# Altium footprint library BU04_Footprint.PcbLib: 1 footprints
Each footprint in its own frame and in the unit in brackets; x right, y up, seen from the top. Pads: shape width x height; smd on the part's side, far side on the other; paste and mask are expansions set on the pad; w line width, h text height; cw(c..) or ccw(c..) is an arc to the next point about the centre after c.
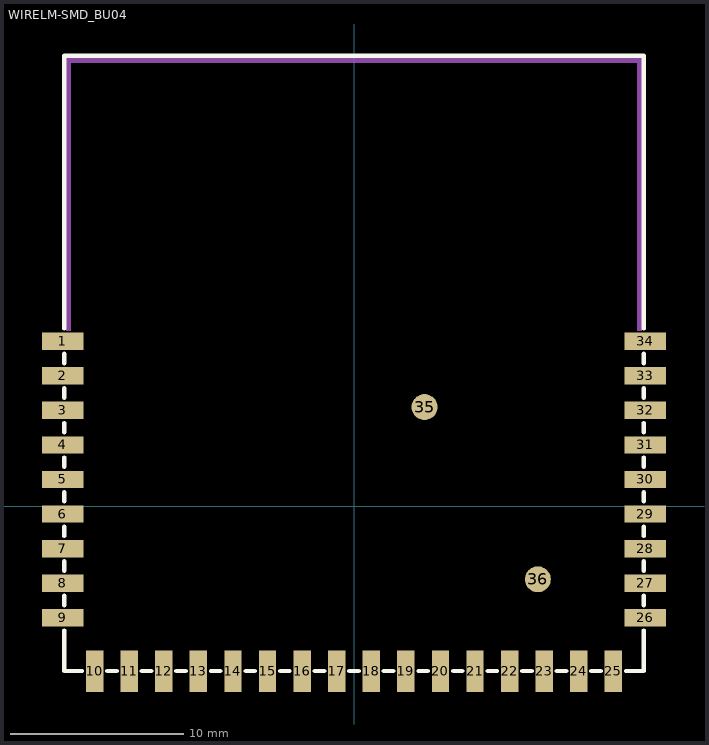
[diagram p0: the footprint, top view; thin cyan lines are the x and y axes]

## WIRELM-SMD_BU04 [mm]
pads (36):
  rect 2.4x1 smd paste+0 mask+0.051: 1(-16.85,9.55) 2(-16.85,7.55) 3(-16.85,5.55) 4(-16.85,3.55) 5(-16.85,1.55) 6(-16.85,-0.45) 7(-16.85,-2.45) 8(-16.85,-4.45) 9(-16.85,-6.45) 26(16.85,-6.45) 27(16.85,-4.45) 28(16.85,-2.45) 29(16.85,-0.45) 30(16.85,1.55) 31(16.85,3.55) 32(16.85,5.55) 33(16.85,7.55) 34(16.85,9.55)
  rect 1x2.4 smd paste+0 mask+0.051: 10(-15,-9.55) 11(-13,-9.55) 12(-11,-9.55) 13(-9,-9.55) 14(-7,-9.55) 15(-5,-9.55) 16(-3,-9.55) 17(-1,-9.55) 18(1,-9.55) 19(3,-9.55) 20(5,-9.55) 21(7,-9.55) 22(9,-9.55) 23(11,-9.55) 24(13,-9.55) 25(15,-9.55)
  round 1.5 smd paste+0 mask+0.051: 35(4.08,5.74) 36(10.63,-4.22)
Top Overlay:
  lines w0.254: -16.75,-7.181 -16.75,-9.271 -16.75,-9.525 -15.731,-9.525 ; -16.75,-5.719 -16.75,-5.181 ; -16.75,-3.719 -16.75,-3.181 ; -16.75,-1.719 -16.75,-1.181 ; -16.75,0.281 -16.75,0.819 ; -16.75,2.281 -16.75,2.819 ; -16.75,4.281 -16.75,4.819 ; -16.75,6.281 -16.75,6.819 ; -16.75,8.281 -16.75,8.819 ; -16.75,10.281 -16.75,26.05 16.75,26.05 ; -14.269,-9.525 -13.731,-9.525 ; -12.269,-9.525 -11.731,-9.525 ; -10.269,-9.525 -9.731,-9.525 ; -8.269,-9.525 -7.731,-9.525 ; -6.269,-9.525 -5.731,-9.525 ; -4.269,-9.525 -3.731,-9.525 ; -2.269,-9.525 -1.731,-9.525 ; -0.269,-9.525 0.269,-9.525 ; 1.731,-9.525 2.269,-9.525 ; 3.731,-9.525 4.269,-9.525 ; 5.731,-9.525 6.269,-9.525 ; 7.731,-9.525 8.269,-9.525 ; 9.731,-9.525 10.269,-9.525 ; 11.731,-9.525 12.269,-9.525 ; 13.731,-9.525 14.269,-9.525 ; 15.731,-9.525 16.764,-9.525 16.764,-7.181 ; 16.764,-5.719 16.764,-5.181 ; 16.764,-3.719 16.764,-3.181 ; 16.764,-1.719 16.764,-1.181 ; 16.764,0.281 16.764,0.819 ; 16.764,2.281 16.764,2.819 ; 16.764,4.281 16.764,4.819 ; 16.764,6.281 16.764,6.819 ; 16.764,8.281 16.764,8.819 ; 16.764,10.281 16.764,26.05
Mechanical 15:
  region: -16.637,10.16 -16.637,25.908 16.637,25.908 16.637,10.16 16.383,10.16 16.383,25.654 -16.383,25.654 -16.383,10.16